# Altium schematic symbol library LD09S13A4GX00LF.SchLib: 1 symbol
Pins are listed as number, name and electrical type; pins without a type are passive.

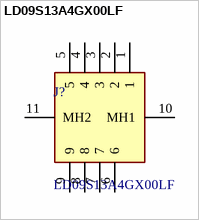
[diagram p0: symbol LD09S13A4GX00LF]

## LD09S13A4GX00LF
designator J?
D-Subminiature Economy Range, Input Output Connectors, Signal 9 way Socket Right Angle, Solder Europe standard, 50 cycles, Harpoons + Threaded Insert UNC 4 - 40 + Elec cont., 1.6 mm PCB thickness; Manufacturer_Name: Amphenol Communications Solutions; Geometry.Height: 13.86mm; Mouser Part Number: *; Mouser Price/Stock: *; Manufacturer_Part_Number: LD09S13A4GX00LF; Datasheet Link: https://cdn.amphenol-cs.com/media/wysiwyg/files/drawing/10130913.pdf
footprint LD09S13A4GX00LF
pins: 1, 2, 3, 4, 5, 6, 7, 8, 9, 10 MH1, 11 MH2